# Altium schematic symbol library 2020-06-03_14-55-29.SchLib: 2 symbols
Pins are listed as number, name and electrical type; pins without a type are passive.

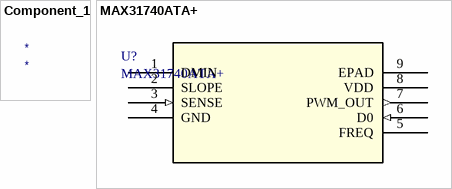
[diagram p0: symbols Component_1 to MAX31740ATA+]

## Component_1
designator *

## MAX31740ATA+
designator U?
No Description Available; Vendor: Maxim Integrated Products; Built_By: EMA_Jessica; SourceLibrary: Maxim_2018-11-30; Manufacturer_Part_Number: MAX31740ATA+; Copyright: Copyright (C) 2016 Accelerated Designs. All rights reserved; RefDes: RefDes; Type: DEV
footprint 21-0174B
pins: 1 DMIN, 2 SLOPE, 3 SENSE (in), 4 GND (power), 5 FREQ, 6 D0 (in), 7 PWM_OUT (out), 8 VDD (power), 9 EPAD